# Altium schematic symbol library 频率计.SchLib: 2 symbols
Pins are listed as number, name and electrical type; pins without a type are passive.

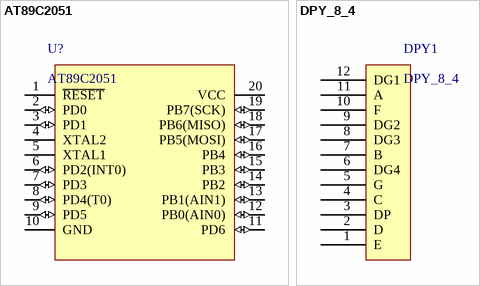
[diagram p0: symbols AT89C2051 to DPY_8_4]

## AT89C2051
designator U?
footprint DIP20
pins: 1 ~{RESET}, 2 PD0 (io), 3 PD1 (io), 4 XTAL2 (oc), 5 XTAL1 (oc), 6 PD2(INT0) (io), 7 PD3 (io), 8 PD4(T0) (io), 9 PD5 (io), 10 GND (power), 11 PD6 (io), 12 PB0(AIN0) (io), 13 PB1(AIN1) (io), 14 PB2 (io), 15 PB3 (io), 16 PB4 (io), 17 PB5(MOSI) (io), 18 PB6(MISO) (io), 19 PB7(SCK) (io), 20 VCC (power)

## DPY_8_4
designator DPY1
footprint DPY_8_4
pins: 1 E, 2 D, 3 DP, 4 C, 5 G, 6 DG4, 7 B, 8 DG3, 9 DG2, 10 F, 11 A, 12 DG1